# EAGLE library part PTH08000W(EUS) (library Perso)
PTH08000H Alimentation à découpage : Vin : 4.5V to 14V Vout : 0.9V to 5.5V Iout : 2.25A
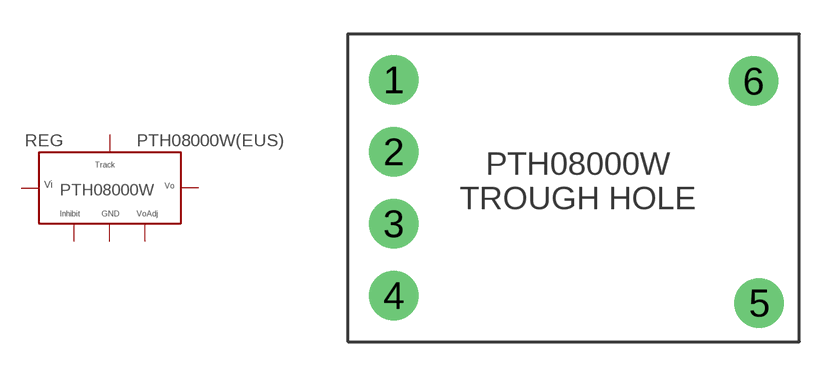
[diagram p0: symbol with the pads of TRHOUGH_HOLE_(EUS); footprint TRHOUGH_HOLE_(EUS)]

Designator prefix REG

## PTH08000W(EUS)  [TRHOUGH_HOLE_(EUS)]
1  1
2  2
3  3
4  4
5  5
6  6

## Footprint TRHOUGH_HOLE_(EUS) (pad centres in mm)
drill 1.1 pad 2.184: 1 2.032,11.557; 2 2.032,8.382; 3 2.032,5.207; 4 2.032,2.032; 5 18.161,1.702; 6 17.907,11.506